# Altium footprint library SC_SOT23.PcbLib: 1 footprints
Each footprint in its own frame and in the unit in brackets; x right, y up, seen from the top. Pads: shape width x height; smd on the part's side, far side on the other; paste and mask are expansions set on the pad; w line width, h text height; cw(c..) or ccw(c..) is an arc to the next point about the centre after c.
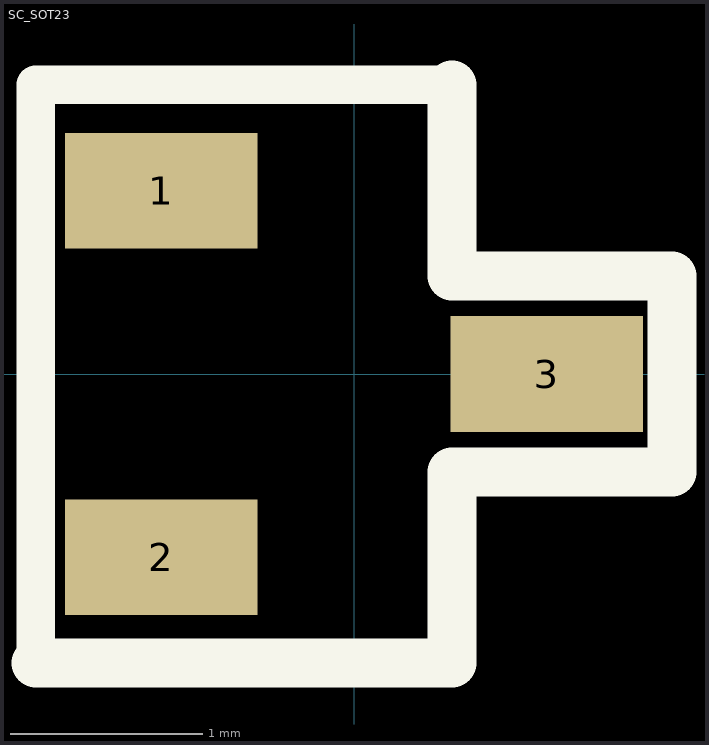
[diagram p0: the footprint, top view; thin cyan lines are the x and y axes]

## SC_SOT23 [mm] "SOT23, 3-Leads, Body 2.9x1.3mm, Pitch 0.95mm, Lead Span 2.3mm, IPC High Density"
height 1.1
pads (3):
  rect 1x0.6 smd: 1(-1,0.95) 2(-1,-0.95) 3(1,0)
Top Overlay:
  lines w0.2: -1.651,-1.5 -1.651,1.5 0.508,1.5
  lines w0.254: -1.651,-1.5 0.508,-1.5 0.508,-0.508 1.651,-0.508 1.651,0.508 0.508,0.508 0.508,1.5
3D body: height 0.99, standoff 0, extent -1.274,-1.46 1.274,1.46